# EAGLE library part MAX8677A (library zz-upenn 2)
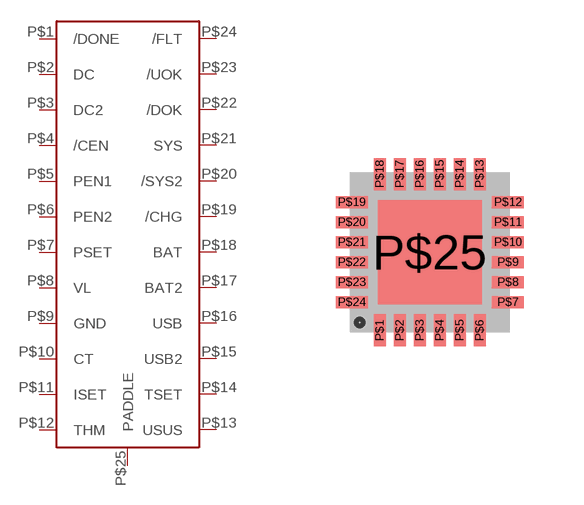
[diagram p10: symbol with the pads of QFN24; footprint QFN24]

Designator prefix -

## MAX8677A  [QFN24]
P$1  /DONE
P$2  DC
P$3  DC2
P$4  /CEN
P$5  PEN1
P$6  PEN2
P$7  PSET
P$8  VL
P$9  GND
P$10  CT
P$11  ISET
P$12  THM
P$13  USUS
P$14  TSET
P$15  USB2
P$16  USB
P$17  BAT2
P$18  BAT
P$19  /CHG
P$20  /SYS2
P$21  SYS
P$22  /DOK
P$23  /UOK
P$24  /FLT
P$25  PADDLE

## Footprint QFN24 (pad centres in mm)
smd 0.3 x 0.8: P$1 -1.25,-1.955; P$2 -0.75,-1.955; P$3 -0.25,-1.955; P$4 0.25,-1.955; P$5 0.75,-1.955; P$6 1.25,-1.955; P$13 1.25,1.955; P$14 0.75,1.955; P$15 0.25,1.955; P$16 -0.25,1.955; P$17 -0.75,1.955; P$18 -1.25,1.955
smd 0.8 x 0.3: P$7 1.955,-1.25; P$8 1.955,-0.75; P$9 1.955,-0.25; P$10 1.955,0.25; P$11 1.955,0.75; P$12 1.955,1.25; P$19 -1.955,1.25; P$20 -1.955,0.75; P$21 -1.955,0.25; P$22 -1.955,-0.25; P$23 -1.955,-0.75; P$24 -1.955,-1.25
smd 2.6 x 2.6: P$25 0,0